# Altium schematic symbol library 39515000440.SchLib: 1 symbol
Pins are listed as number, name and electrical type; pins without a type are passive.

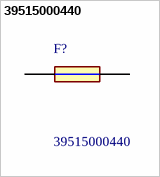
[diagram p0: symbol 39515000440]

## 39515000440
designator F?
LITTELFUSE - 39515000440 - Fuse, PCB Leaded, 5 A, 125 V, TE5 395 Series, Fast Acting, Radial Leaded; Geometry.Height: 8mm; Newark Part Number: *; Newark Price/Stock: *; Manufacturer_Name: LITTELFUSE; Manufacturer_Part_Number: 39515000440; Datasheet Link: https://www.littelfuse.com/~/media/electronics/datasheets/fuses/littelfuse_fuse_395_datasheet.pdf.pdf
footprint 39515000440
pins: 1, 2